# Altium schematic symbol library ERM_OPTO_Long.SCHLIB: 3 symbols
Pins are listed as number, name and electrical type; pins without a type are passive.

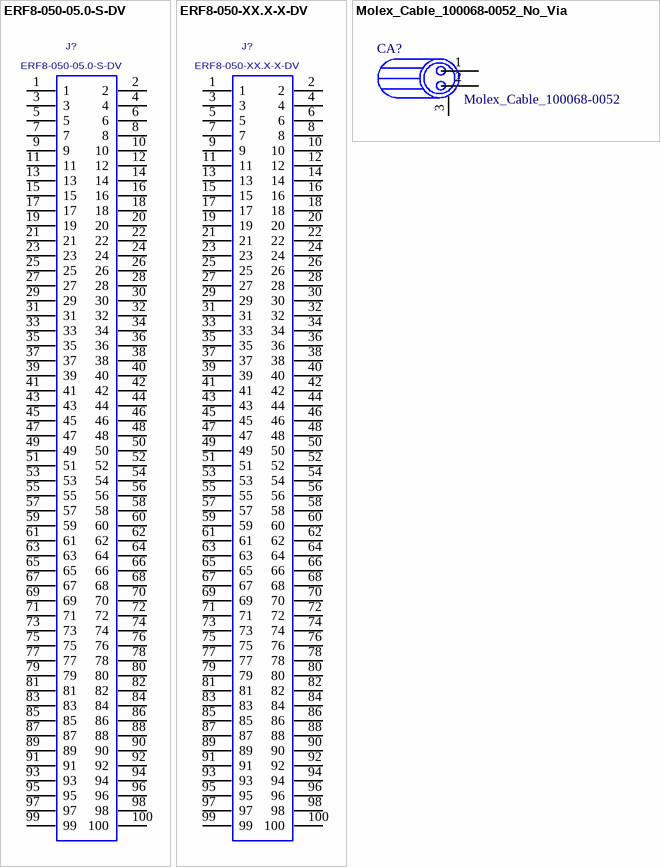
[diagram p0: symbols ERF8-050-05.0-S-DV to Molex_Cable_100068-0052_No_Via]

## ERF8-050-05.0-S-DV
designator J?
Socket Assembly, Double Row Vertical, Surface Mount, 0.8mm Pitch, 100 Pins; MANUFACTURER: SAMTEC; PCB DECAL: ERF8-050-XX.X-X-DV; Unit_Price_Static: 7.00; CREATED: October 23, 2014 - Wendy Xin; Manufacturer Part Number: ERF8-050-05.0-S-DV; Package / Case: ERF8-050-05.0-S-DV
footprint ERF8-050-XX.X-X-DV
pins: 1, 2, 3, 4, 5, 6, 7, 8, 9, 10, 11, 12, 13, 14, 15, 16, 17, 18, 19, 20, 21, 22, 23, 24, 25, 26, 27, 28, 29, 30, 31, 32, 33, 34, 35, 36, 37, 38, 39, 40, 41, 42, 43, 44, 45, 46, 47, 48, 49, 50, 51, 52, 53, 54, 55, 56, 57, 58, 59, 60, 61, 62, 63, 64, 65, 66, 67, 68, 69, 70, 71, 72, 73, 74, 75, 76, 77, 78, 79, 80, 81, 82, 83, 84, 85, 86, 87, 88, 89, 90, 91, 92, 93, 94, 95, 96, 97, 98, 99, 100

## ERF8-050-XX.X-X-DV
designator J?
Socket Assembly, Double Row Vertical, Surface Mount, 0.8mm Pitch, 100 Pins; MANUFACTURER: SAMTEC; Manufacturer Part Number: ERF8-050-05.0-S-DV; Unit_Price_Static: 7.00; CREATED: October 23, 2014 - Wendy Xin; PCB DECAL: ERF8-050-XX.X-X-DV; Package / Case: ERF8-050-05.0-S-DV
footprint ERF8-050-XX.X-X-DV
pins: 1, 2, 3, 4, 5, 6, 7, 8, 9, 10, 11, 12, 13, 14, 15, 16, 17, 18, 19, 20, 21, 22, 23, 24, 25, 26, 27, 28, 29, 30, 31, 32, 33, 34, 35, 36, 37, 38, 39, 40, 41, 42, 43, 44, 45, 46, 47, 48, 49, 50, 51, 52, 53, 54, 55, 56, 57, 58, 59, 60, 61, 62, 63, 64, 65, 66, 67, 68, 69, 70, 71, 72, 73, 74, 75, 76, 77, 78, 79, 80, 81, 82, 83, 84, 85, 86, 87, 88, 89, 90, 91, 92, 93, 94, 95, 96, 97, 98, 99, 100

## Molex_Cable_100068-0052_No_Via
designator CA?, comment Molex_Cable_100068-0052
Molex; 100068-0052, Twinax Cable 34AWG 100 Ohms; Unit_Price_Static: 25.00; Package / Case: Molex_100068-0052; Manufacturer: Molex; Manufacturer Part Number: 100068-0052
footprint Molex_Cable_100068-0052_No_Via (SM1206 EMI Filter)
pins: 1, 2, 3